# EAGLE library part CD4093BCMX (library Fairchild_By_element14_Batch_1)
Quad 2-Input NAND Schmitt Trigger
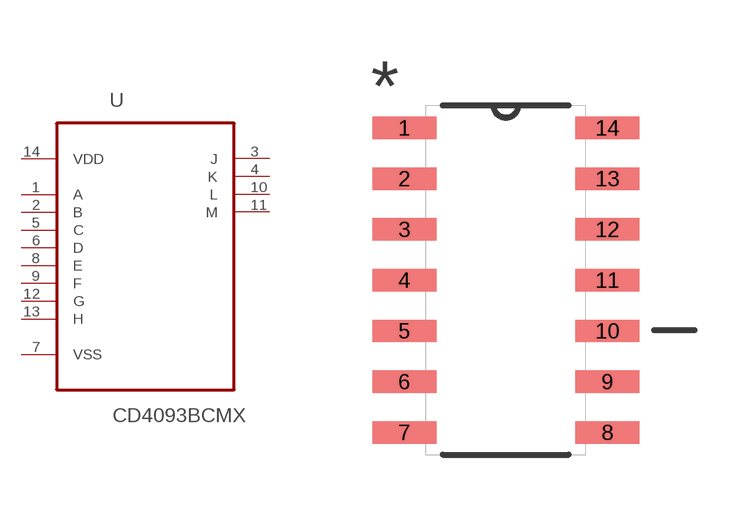
[diagram p170: symbol with the pads of SOIC127P600X175-14N; footprint SOIC127P600X175-14N]

Designator prefix U

## CD4093BCMX (MPN: CD4093BCMX; OC_FARNELL: -; OC_NEWARK: 18C6101; PACKAGE: SOIC-14; SUPPLIER: Fairchild)  [SOIC127P600X175-14N]
1  A  in
2  B  in
3  J  out
4  K  out
5  C  in
6  D  in
7  VSS  pwr
8  E  in
9  F  in
10  L  out
11  M  out
12  G  in
13  H  in
14  VDD  pwr

## Footprint SOIC127P600X175-14N (pad centres in mm)
smd 1.6 x 0.559: 1 -2.54,3.81; 2 -2.54,2.54; 3 -2.54,1.27; 4 -2.54,0; 5 -2.54,-1.27; 6 -2.54,-2.54; 7 -2.54,-3.81; 8 2.54,-3.81; 9 2.54,-2.54; 10 2.54,-1.27; 11 2.54,0; 12 2.54,1.27; 13 2.54,2.54; 14 2.54,3.81